# Altium schematic symbol library PRTR5V0U2D.Schlib: 1 symbol
Pins are listed as number, name and electrical type; pins without a type are passive.

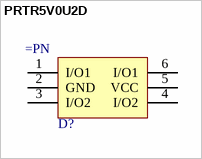
[diagram p0: symbol PRTR5V0U2D]

## PRTR5V0U2D
designator D?
Dual ESD Protection IC
pins: 1 I/O1, 2 GND (power), 3 I/O2, 4 I/O2, 5 VCC (power), 6 I/O1